# EAGLE library part BNO055 (library BNO055)
BNO055 9-axis Absolute Orientation Sensor ( SiP ) w/Sensors and Sensor Fusion
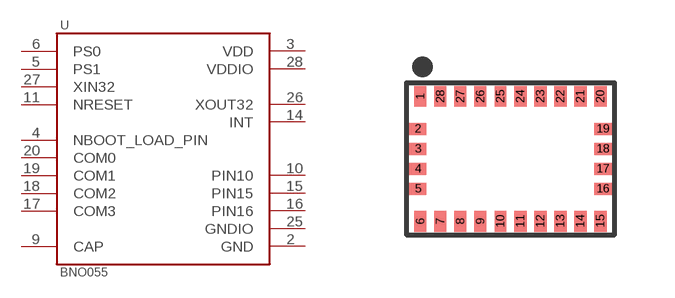
[diagram p0: symbol with the pads of LGA28R50P4X10_380X520X100; footprint LGA28R50P4X10_380X520X100]

Designator prefix U

## BNO055 (Availability: Unavailable; Description: BNO055 9-axis Absolute Orientation Sensor _ SiP _ w/Sensors and Sensor Fusion; MF: Bosch; MP: BNO055; Package: LGA-28 Bosch; Price: None)  [LGA28R50P4X10_380X520X100]
2  GND  pwr
3  VDD  pwr
4  NBOOT_LOAD_PIN
5  PS1  in
6  PS0  in
9  CAP  pas
10  PIN10  pwr
11  NRESET  in
14  INT  out
15  PIN15  pwr
16  PIN16  pwr
17  COM3
18  COM2
19  COM1
20  COM0
25  GNDIO  pwr
26  XOUT32  out
27  XIN32  in
28  VDDIO  pwr

## Footprint LGA28R50P4X10_380X520X100 (pad centres in mm)
smd 0.3 x 0.525: 1 -2.25,1.562; 6 -2.25,-1.562; 7 -1.75,-1.562; 8 -1.25,-1.562; 9 -0.75,-1.562; 10 -0.25,-1.562; 11 0.25,-1.562; 12 0.75,-1.562; 13 1.25,-1.562; 14 1.75,-1.562; 15 2.25,-1.562; 20 2.25,1.562; 21 1.75,1.562; 22 1.25,1.562; 23 0.75,1.562; 24 0.25,1.562; 25 -0.25,1.562; 26 -0.75,1.562; 27 -1.25,1.562; 28 -1.75,1.562
smd 0.425 x 0.3: 2 -2.312,0.75; 3 -2.312,0.25; 4 -2.312,-0.25; 5 -2.312,-0.75; 16 2.312,-0.75; 17 2.312,-0.25; 18 2.312,0.25; 19 2.312,0.75